# Altium footprint library Разъемы импортные.PcbLib: 127 footprints (part 3 of 8)
Each footprint in its own frame and in the unit in brackets; x right, y up, seen from the top. Pads: shape width x height; smd on the part's side, far side on the other; paste and mask are expansions set on the pad; w line width, h text height; cw(c..) or ccw(c..) is an arc to the next point about the centre after c.
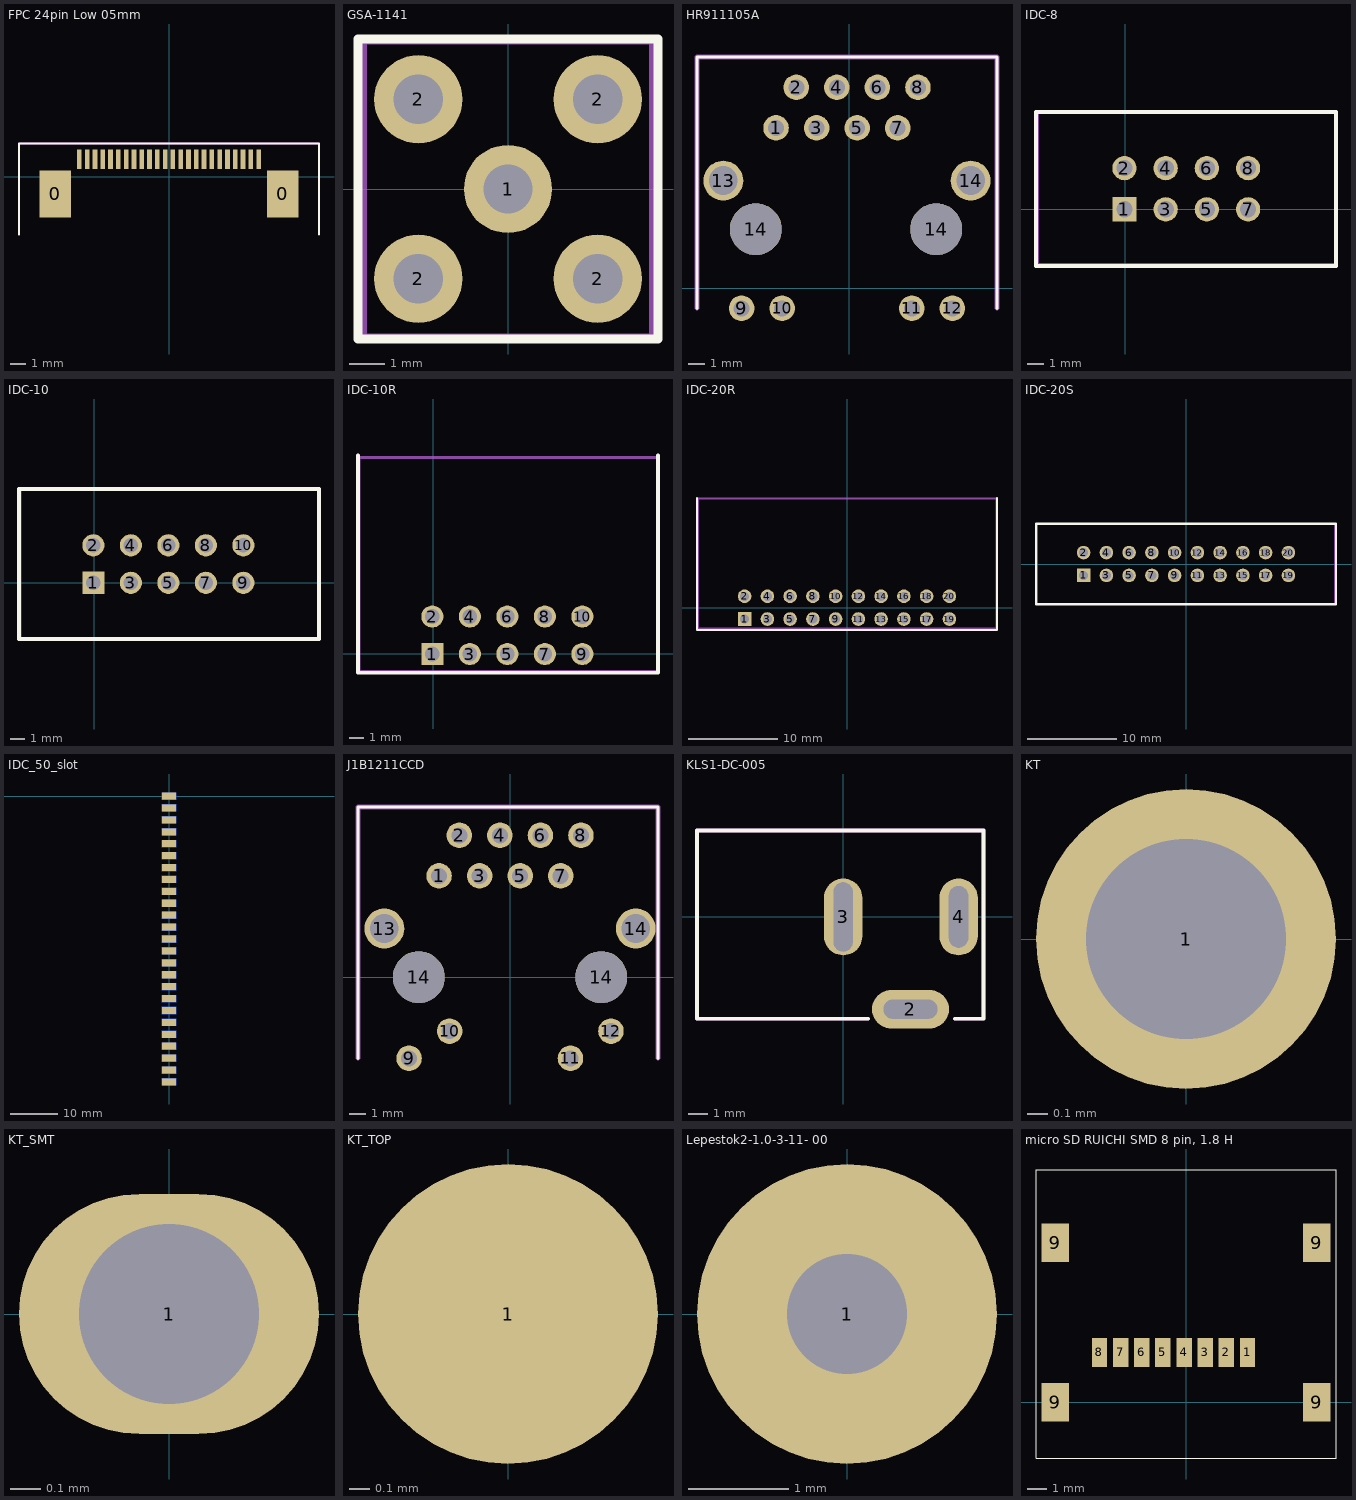
[diagram p2: the footprints below, top view; thin cyan lines are the x and y axes]

## FPC 24pin Low 05mm [mm]
pads (26):
  rect 2x3 smd: 0(-7.3,-1.112) 0(7.3,-1.112)
  rect 0.3x1.25 smd: 1(-5.75,1.112) 2(-5.25,1.112) 3(-4.75,1.112) 4(-4.25,1.112) 5(-3.75,1.112) 6(-3.25,1.112) 7(-2.75,1.112) 8(-2.25,1.112) 9(-1.75,1.112) 10(-1.25,1.112) 11(-0.75,1.112) 12(-0.25,1.112) 13(0.25,1.112) 14(0.75,1.112) 15(1.25,1.112) 16(1.75,1.112) 17(2.25,1.112) 18(2.75,1.112) 19(3.25,1.112) 20(3.75,1.112) 21(4.25,1.112) 22(4.75,1.112) 23(5.25,1.112) 24(5.75,1.112)
Top Overlay:
  lines w0.1: -9.625,-3.714 -9.625,2.128 9.625,2.128 9.625,-3.714
TopAssy:
  lines w0.1: -9.625,-3.714 -9.625,2.128 9.625,2.128 9.625,-3.46
  text ".Designator" at -4.25,-1.913 h1.52
3D body "step_temp.STEP": height 2, standoff -0.1, extent -9.65,-4.187 9.65,1.313

## GSA-1141 [mm]
pads (5):
  round 2.5 hole 1.4: 1(0,0) 2(-2.54,-2.54) 2(-2.54,2.54) 2(2.54,-2.54) 2(2.54,2.54)
Top Overlay:
  lines w0.254: -4.25,-4.25 4.25,-4.25 4.25,4.25 -4.25,4.25 -4.25,-4.25
TopAssy:
  lines w0.2: -4.1,-4.2 -4.1,4.2 4.1,4.2 4.1,-4.2 -4.1,-4.2
  text ".Designator" at -3.3,-2.1 h3
3D body "GSA-1141.STEP": height 9.57, standoff -3.93, extent -3.175,-3.175 3.175,11.625

## HR911105A [mm]
pads (16):
  round 1.6 hole 1: 1(-4.572,10.033) 2(-3.302,12.573) 3(-2.032,10.033) 4(-0.762,12.573) 5(0.508,10.033) 6(1.778,12.573) 7(3.048,10.033) 8(4.318,12.573) 9(-6.731,-1.27) 10(-4.191,-1.27) 11(3.937,-1.27) 12(6.477,-1.27)
  round 2.5 hole 1.8: 13(-7.874,6.731) 14(7.62,6.731)
  round 3.25 hole 3.25 unplated: 14(-5.842,3.683) 14(5.461,3.683)
Top Overlay:
  lines w0.2: -9.525,-1.27 -9.525,14.478 9.271,14.478 9.271,-1.27
TopAssy:
  lines w0.2: -9.525,-1.27 -9.525,14.478 9.271,14.478 9.271,-1.27
  lines w0.3: -9.525,-1.27 -9.525,14.478 9.271,14.478 9.271,-1.27
  text ".Designator" at -2.794,6.35 h1.52
3D body "hr911105.step": height 15, standoff -1.5, extent -8.067,-7.239 7.813,14.161

## IDC-8 [mm]
pads (8):
  rect 1.5x1.5 hole 1: 1(-0.043,-0.003)
  round 1.5 hole 1: 2(-0.043,2.537) 3(2.497,-0.003) 4(2.497,2.537) 5(5.037,-0.003) 6(5.037,2.537) 7(7.577,-0.003) 8(7.577,2.537)
Top Overlay:
  lines w0.254: -5.5,-3.5 -5.5,6 13,6 13,-3.5 -5.5,-3.5
TopAssy:
  lines w0.2: -5.4,-3.4 -5.4,6 13,6 13,-3.4 -5.4,-3.4
  text ".Designator" at -4.6,-1.3 h3
3D body "IDC-8MS.step": height 9, standoff -3.6, extent -5.25,-3.15 12.71,5.75

## IDC-10 [mm]
pads (10):
  rect 1.5x1.5 hole 1: 1(-0.043,-0.003)
  round 1.5 hole 1: 2(-0.043,2.537) 3(2.497,-0.003) 4(2.497,2.537) 5(5.037,-0.003) 6(5.037,2.537) 7(7.577,-0.003) 8(7.577,2.537) 9(10.117,-0.003) 10(10.117,2.537)
Top Overlay:
  lines w0.254: -5.08,-3.81 15.24,-3.81 15.24,6.35 -5.08,6.35 -5.08,-3.81
TopAssy:
  lines w0.2: -5,-3.8 15.2,-3.8 15.2,6.3 -5,6.3 -5,-3.8
  text ".Designator" at -4.2,-1.7 h3
3D body "IDC10-MS.STEP": height 9.55, standoff -3.15, extent -5.16,-3 15.24,6.35

## IDC-10R [mm]
pads (10):
  rect 1.5x1.5 hole 1: 1(-0.043,-0.003)
  round 1.5 hole 1: 2(-0.043,2.537) 3(2.497,-0.003) 4(2.497,2.537) 5(5.037,-0.003) 6(5.037,2.537) 7(7.577,-0.003) 8(7.577,2.537) 9(10.117,-0.003) 10(10.117,2.537)
Top Overlay:
  lines w0.254: -5.08,13.462 -5.08,-1.27 15.24,-1.27 15.24,13.462
TopAssy:
  lines w0.2: -5,-1.2 15.2,-1.2 15.2,13.3 -5,13.3 -5,-1.2
  text ".Designator" at -4.2,0.9 h3
3D body "IDC10-MR.STEP": height 9.35, standoff -2.4, extent -5.134,-0.334 15.266,13.546

## IDC-20R [mil]
pads (20):
  rect 60x60 hole 39.37: 1(-450,-50)
  round 60 hole 39.37: 2(-450,50) 3(-350,-50) 4(-350,50) 5(-250,-50) 6(-250,50) 7(-150,-50) 8(-150,50) 9(-50,-50) 10(-50,50) 11(50,-50) 12(50,50) 13(150,-50) 14(150,50) 15(250,-50) 16(250,50) 17(350,-50) 18(350,50) 19(450,-50) 20(450,50)
Top Overlay:
  lines w10: -659.45,482.28 -659.45,-98.43 659.45,-98.43 659.45,482.28
TopAssy:
  lines w7.87: -653.54,-90.55 -653.54,480.31 657.48,480.31 657.48,-90.55 -653.54,-90.55
  text ".Designator" at -622.05,-7.87 h118.11
3D body "IDC-20R.step": height 350.39, standoff -118.11, extent -653.54,-62.59 653.55,489.38

## IDC-20S [mil]
pads (20):
  rect 60x60 hole 39.37: 1(-450,-50)
  round 60 hole 39.37: 2(-450,50) 3(-350,-50) 4(-350,50) 5(-250,-50) 6(-250,50) 7(-150,-50) 8(-150,50) 9(-50,-50) 10(-50,50) 11(50,-50) 12(50,50) 13(150,-50) 14(150,50) 15(250,-50) 16(250,50) 17(350,-50) 18(350,50) 19(450,-50) 20(450,50)
Top Overlay:
  lines w10: -659.45,-177.17 659.45,-177.17 659.45,177.17 -659.45,177.17 -659.45,-177.17
TopAssy:
  lines w7.87: -653.54,-177.17 -653.54,177.17 653.54,177.17 653.54,-177.17 -653.54,-177.17
  text ".Designator" at -622.05,-94.49 h118.11
3D body "IDC-20S.step": height 354.33, standoff -141.73, extent -653.54,-177.16 653.55,173.24

## IDC_50_slot [mm]
pads (50):
  rect 3x1.5 smd: 1(0,0) 3(0,-2.54) 5(0,-5.08) 7(0,-7.62) 9(0,-10.16) 11(0,-12.7) 13(0,-15.24) 15(0,-17.78) 17(0,-20.32) 19(0,-22.86) 21(0,-25.4) 23(0,-27.94) 25(0,-30.48) 27(0,-33.02) 29(0,-35.56) 31(0,-38.1) 33(0,-40.64) 35(0,-43.18) 37(0,-45.72) 39(0,-48.26) 41(0,-50.8) 43(0,-53.34) 45(0,-55.88) 49(0,-60.96) 49(0,-58.42)
  rect 3x1.5 smd far side: 2(0,0) 4(0,-2.54) 6(0,-5.08) 8(0,-7.62) 10(0,-10.16) 12(0,-12.7) 14(0,-15.24) 16(0,-17.78) 18(0,-20.32) 20(0,-22.86) 22(0,-25.4) 24(0,-27.94) 26(0,-30.48) 28(0,-33.02) 30(0,-35.56) 32(0,-38.1) 34(0,-40.64) 36(0,-43.18) 38(0,-45.72) 40(0,-48.26) 42(0,-50.8) 44(0,-53.34) 46(0,-55.88) 48(0,-58.42) 50(0,-60.96)
3D body "IDC-50.STEP": height 3.5, standoff -5.6, extent -1.06,-66.18 11.34,5.22

## J1B1211CCD [mm]
pads (16):
  round 1.6 hole 1: 1(-4.445,6.35) 2(-3.175,8.89) 3(-1.905,6.35) 4(-0.635,8.89) 5(0.635,6.35) 6(1.905,8.89) 7(3.175,6.35) 8(4.445,8.89) 9(-6.325,-5.08) 10(-3.785,-3.38) 11(3.785,-5.08) 12(6.325,-3.38)
  round 2.5 hole 1.8: 13(-7.875,3.05) 14(7.875,3.05)
  round 3.25 hole 3.25 unplated: 14(-5.715,0) 14(5.715,0)
Top Overlay:
  lines w0.2: -9.525,-5.08 -9.525,10.668 9.271,10.668 9.271,-5.08
TopAssy:
  lines w0.2: -9.525,-5.08 -9.525,10.668 9.271,10.668 9.271,-5.08
  lines w0.3: -9.525,-5.08 -9.525,10.668 9.271,10.668 9.271,-5.08
  text ".Designator" at -2.794,2.54 h1.52
3D body "J1B1211CCD.step": height 14.36, standoff -3.95, extent -9.002,-10.752 9.017,10.548

## KLS1-DC-005 [mm]
pads (3):
  oval 4x2 hole 1 slot 2.8 at 0 deg: 2(3.5,-4.8)
  oval 2x4 hole 1 slot 3.6 at 90 deg: 3(0,0)
  oval 2x4 hole 1 slot 3.2 at 90 deg: 4(6,0)
Top Overlay:
  lines w0.2: 1.3,-5.3 -7.6,-5.3 -7.6,4.5 7.3,4.5 7.3,-5.3 5.8,-5.3
TopAssy:
  lines w0.2: 1.3,-5.3 -7.6,-5.3 -7.6,4.5 7.3,4.5 7.3,-5.3 5.8,-5.3
  text ".Designator" at -5.109,1.265 h1.52
3D body "KLS1-DC-005.step": height 11, standoff -4.1, extent -7.5,-5.3 6.9,4.4

## KT [mm]
pads (1):
  round 1.5 hole 1: 1(0,0)
TopAssy:
  text ".Designator" at -0.7,0.6 h3

## KT_SMT [mm]
pads (1):
  oval 1x0.8 hole 0.6: 1(0,0)
TopAssy:
  text ".Designator" at -0.7,0.6 h3

## KT_TOP [mm]
pads (1):
  round 1.5 smd: 1(0,0)
TopAssy:
  text ".Designator" at -0.7,0.6 h3

## Lepestok2-1.0-3-11- 00 [mm]
pads (1):
  round 3 hole 1.2: 1(0,0)

## micro SD RUICHI SMD 8 pin, 1.8 H [mm]
pads (12):
  rect 0.8x1.5 smd: 1(3.2,2.6) 2(2.1,2.6) 3(1,2.6) 4(-0.1,2.6) 5(-1.2,2.6) 6(-2.3,2.6) 7(-3.4,2.6) 8(-4.5,2.6)
  rect 1.45x2 smd: 9(-6.8,0) 9(-6.8,8.3) 9(6.8,0) 9(6.8,8.3)
Top Overlay:
  lines w0.05: -7.8,-2.9 7.8,-2.9 7.8,12.1 -7.8,12.1 -7.8,-2.9